# EAGLE library part CA3306 (library 0myLib)
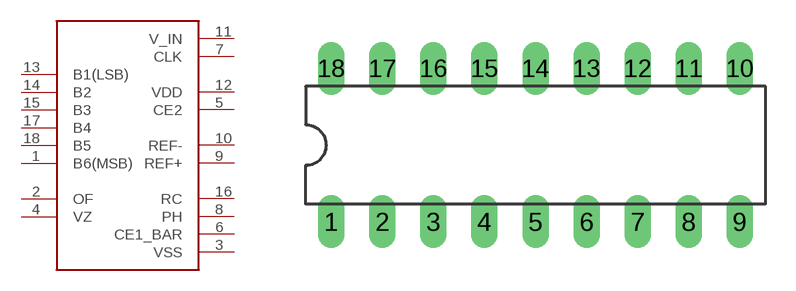
[diagram p63: symbol with the pads of DIL18; footprint DIL18]

Designator prefix -

## CA3306  [DIL18]
1  B6(MSB)
2  OF
3  VSS
4  VZ
5  CE2
6  CE1_BAR
7  CLK
8  PH
9  REF+
10  REF-
11  V_IN
12  VDD
13  B1(LSB)
14  B2
15  B3
16  RC
17  B4
18  B5

## Footprint DIL18 (pad centres in mm)
Dual In Line Package
drill 0.813 long: 1 -10.16,-3.81; 2 -7.62,-3.81; 3 -5.08,-3.81; 4 -2.54,-3.81; 5 0,-3.81; 6 2.54,-3.81; 7 5.08,-3.81; 8 7.62,-3.81; 9 10.16,-3.81; 10 10.16,3.81; 11 7.62,3.81; 12 5.08,3.81; 13 2.54,3.81; 14 0,3.81; 15 -2.54,3.81; 16 -5.08,3.81; 17 -7.62,3.81; 18 -10.16,3.81